# Altium integrated library Nodemcu_esp8266.IntLib: 1 symbol
Pins are listed as number, name and electrical type; pins without a type are passive.

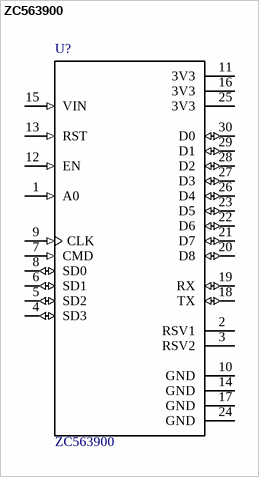
[diagram p0: symbol ZC563900]

## ZC563900
designator U?
NodeMcu Lua ESP8266 WIFI Internet of Things Network Development Module Board; MF: YKS; Package: None; Availability: Unavailable; MP: ZC563900; SnapEDA_Link: https://www.snapeda.com/parts/ZC563900/YKS/view-part/607853/?ref=snap; Price: None; Value: *
footprint *MODULE_ZC563900
pins: 1 A0 (in), 2 RSV1, 3 RSV2, 4 SD3 (io), 5 SD2 (io), 6 SD1 (io), 7 CMD (in), 8 SD0 (io), 9 CLK (in), 10 GND (power), 11 3V3 (power), 12 EN (in), 13 RST (in), 14 GND (power), 15 VIN (in), 16 3V3 (power), 17 GND (power), 18 TX (io), 19 RX (io), 20 D8 (io), 21 D7 (io), 22 D6 (io), 23 D5 (io), 24 GND (power), 25 3V3 (power), 26 D4 (io), 27 D3 (io), 28 D2 (io), 29 D1 (io), 30 D0 (io)